# Altium schematic symbol library Capacitors.SchLib: 1 symbol
Pins are listed as number, name and electrical type; pins without a type are passive.

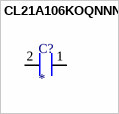
[diagram p0: symbol CL21A106KOQNNNE]

## CL21A106KOQNNNE
designator C?
Multilayer Ceramic Capacitors MLCC - SMD/SMT 10uF+/-10% 16V X5R 2 0805
footprint CL21A106KOQNNNE (CAP CER 10UF 16V X5R 0805)
pins: 1   , 2